# Altium schematic symbol library Interface - Controllers.SchLib: 1 symbol
Pins are listed as number, name and electrical type; pins without a type are passive.

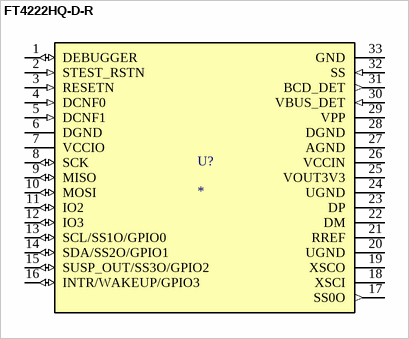
[diagram p0: symbol FT4222HQ-D-R]

## FT4222HQ-D-R
designator U?
IC BRIDGE USB TO I2C/SPI 32VQFN; Supplier 1: Digi-Key; Supplier 2: Mouser; Supplier 3: Arrow Electronics; Supplier Part Number 1: 768-1362-1-ND; Supplier Part Number 2: 895-FT4222HQ-D-R; Supplier Part Number 3: FT4222HQ-D-R
footprint FTDI_32-VQFN (5x5)
pins: 1 DEBUGGER (io), 2 STEST_RSTN (in), 3 RESETN (in), 4 DCNF0 (in), 5 DCNF1 (in), 6 DGND, 7 VCCIO (power), 8 SCK (io), 9 MISO (io), 10 MOSI (io), 11 IO2 (io), 12 IO3 (io), 13 SCL/SS1O/GPIO0 (io), 14 SDA/SS2O/GPIO1 (io), 15 SUSP_OUT/SS3O/GPIO2 (io), 16 INTR/WAKEUP/GPIO3 (io), 17 SS0O (out), 18 XSCI, 19 XSCO, 20 UGND, 21 RREF, 22 DM, 23 DP, 24 UGND, 25 VOUT3V3 (power), 26 VCCIN (power), 27 AGND, 28 DGND, 29 VPP (power), 30 VBUS_DET (in), 31 BCD_DET (out), 32 SS (in), 33 GND